# Altium footprint library IOT_Fire_Alarm.PcbLib: 18 footprints (part 1 of 2)
Each footprint in its own frame and in the unit in brackets; x right, y up, seen from the top. Pads: shape width x height; smd on the part's side, far side on the other; paste and mask are expansions set on the pad; w line width, h text height; cw(c..) or ccw(c..) is an arc to the next point about the centre after c.
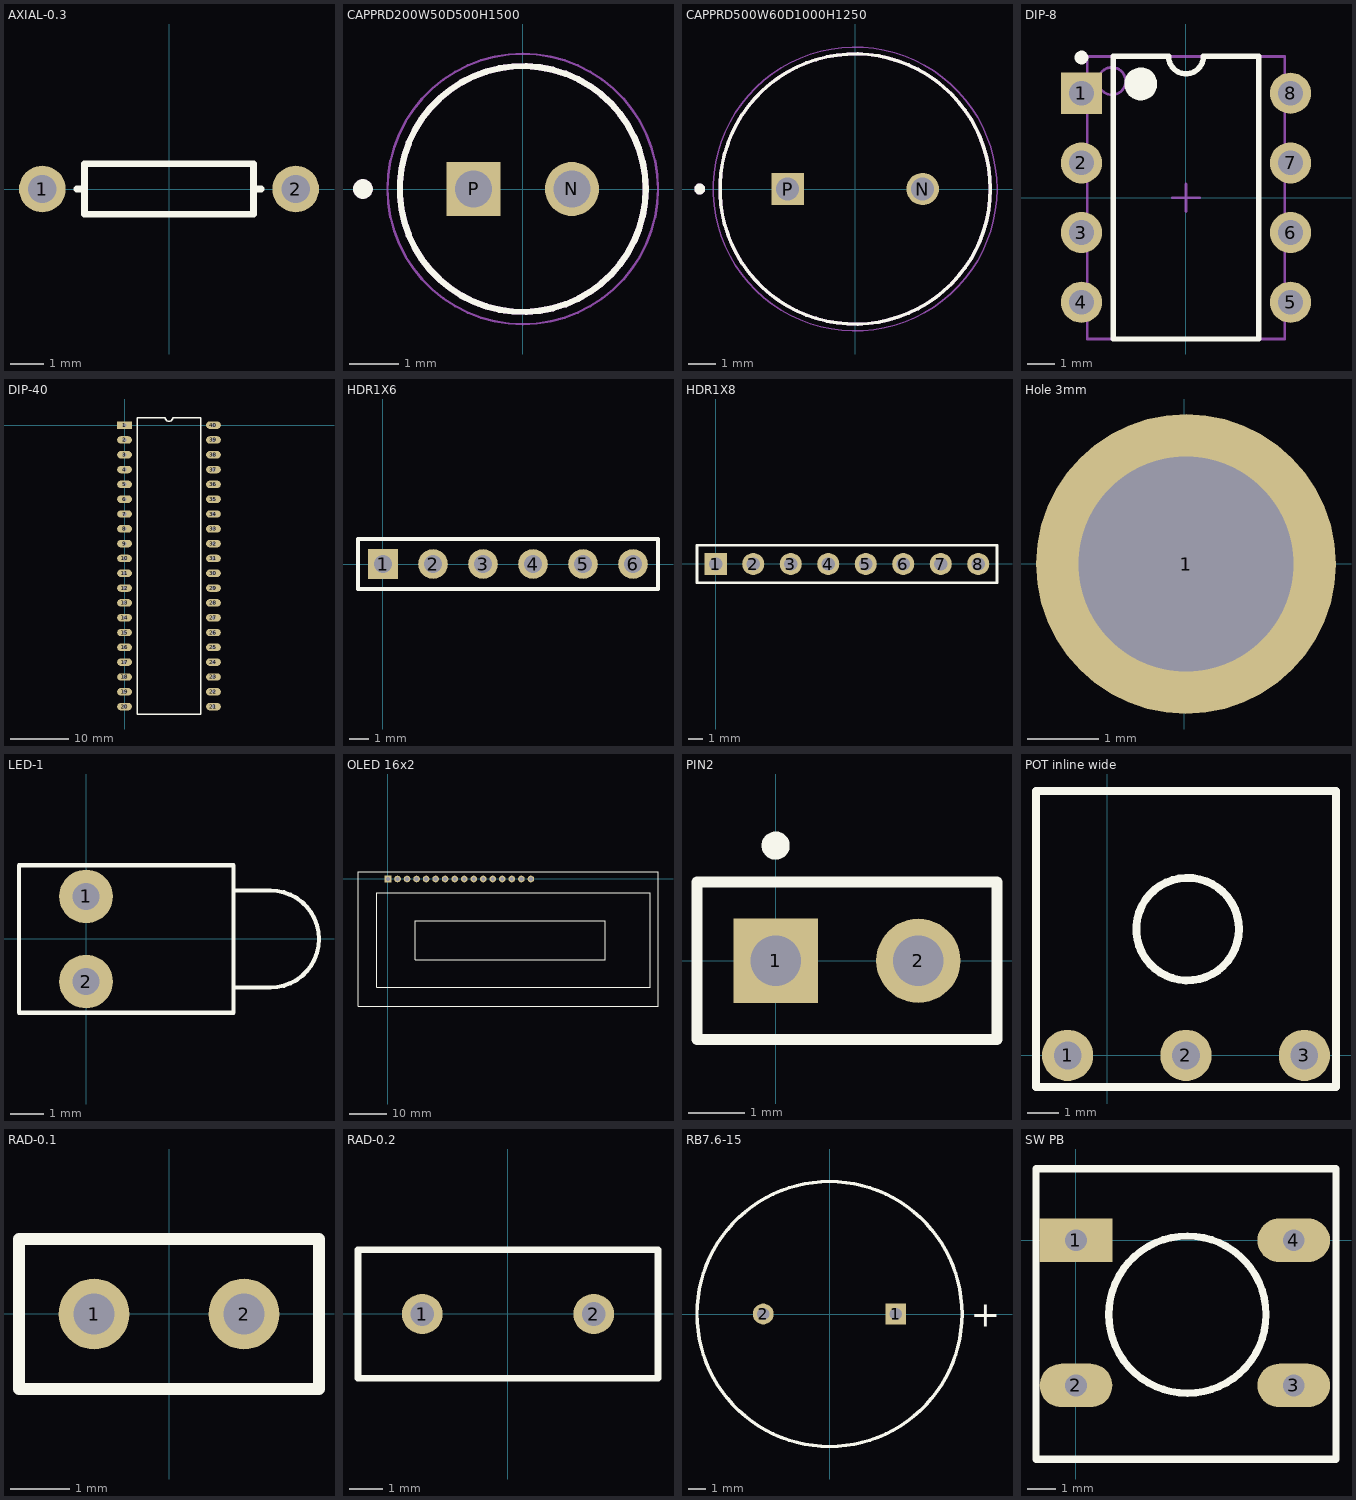
[diagram p0: the footprints below, top view; thin cyan lines are the x and y axes]

## AXIAL-0.3 [mm] "Axial Device, Thru-Hole; 2 Leads; 0.3 in Pin Spacing"
height 1.524
pads (2):
  round 1.4 hole 0.85: 1(-3.81,0) 2(3.81,0)
Top Overlay:
  lines w0.2: -2.769,0 -2.54,0 ; 2.769,0 2.54,0 ; 2.54,0 2.54,0.762 -2.54,0.762 -2.54,-0.762 2.54,-0.762 2.54,0

## CAPPRD200W50D500H1500 [mm]
height 1.524
pads (2):
  round 1.1 hole 0.75: N(1,0)
  rect 1.1x1.1 hole 0.75: P(-1,0)
Top Overlay:
  circle w0.2: c-3.25,0 r0.1
  circle w0.127: c0,0 r2.5
Mechanical 13:
  circle w0.2: c-3.25,0 r0.1
  circle w0.127: c0,0 r2.5
Mechanical 15:
  circle w0.05: c0,0 r2.75
3D body "step_temp.STEP": height 15, standoff -17, extent -2.5,-2.499 2.5,2.499

## CAPPRD500W60D1000H1250 [mm]
height 1.524
pads (2):
  round 1.2 hole 0.85: N(2.5,0)
  rect 1.2x1.2 hole 0.85: P(-2.5,0)
Top Overlay:
  circle w0.2: c-5.75,0 r0.1
  circle w0.127: c0,0 r5
Mechanical 13:
  circle w0.2: c-5.75,0 r0.1
  circle w0.127: c0,0 r5
Mechanical 15:
  circle w0.05: c0,0 r5.25
3D body "step_temp.STEP": height 12.5, standoff -17, extent -5,-4.998 5,4.998

## DIP-8 [mm]
height 1.524
pads (8):
  rect 1.5x1.5 hole 0.9: 1(-3.81,3.81)
  round 1.5 hole 0.9: 2(-3.81,1.27) 3(-3.81,-1.27) 4(-3.81,-3.81) 5(3.81,-3.81) 6(3.81,-1.27) 7(3.81,1.27) 8(3.81,3.81)
Top Overlay:
  circle w0.25: c-3.81,5.11 r0.125
  circle w0.6: c-1.65,4.15 r0.3
  lines w0.2: -2.65,-5.15 -2.65,5.15 -0.635,5.15 ccw(c0,5.15) 0.635,5.15 2.65,5.15 2.65,-5.15 -2.65,-5.15
Mechanical 13:
  circle w0.1: c-2.7,4.25 r0.5
  lines w0.1: -3.6,-5.15 -3.6,5.15 3.6,5.15 3.6,-5.15 -3.6,-5.15
Mechanical 15:
  lines w0.1: -0.5,0 0.5,0 ; 0,-0.5 0,0.5
3D body: height 5.08, standoff 0, extent -3.6,-5.15 3.6,5.15

## DIP-40 [mil]
height 60
pads (40):
  rect 100x50 hole 25: 1(0,0)
  oval 100x50 hole 25: 2(0,-100) 3(0,-200) 4(0,-300) 5(0,-400) 6(0,-500) 7(0,-600) 8(0,-700) 9(0,-800) 10(0,-900) 11(0,-1000) 12(0,-1100) 13(0,-1200) 14(0,-1300) 15(0,-1400) 16(0,-1500) 17(0,-1600) 18(0,-1700) 19(0,-1800) 20(0,-1900) 21(600,-1900) 22(600,-1800) 23(600,-1700) 24(600,-1600) 25(600,-1500) 26(600,-1400) 27(600,-1300) 28(600,-1200) 29(600,-1100) 30(600,-1000) 31(600,-900) 32(600,-800) 33(600,-700) 34(600,-600) 35(600,-500) 36(600,-400) 37(600,-300) 38(600,-200) 39(600,-100) 40(600,0)
Top Overlay:
  lines w10: 85,-1950 515,-1950 515,50 325,50 cw(c300,50) 275,50 85,50 85,-1950

## HDR1X6 [mm] "Connector; Header; 6 Position"
height 1.524
pads (6):
  rect 1.5x1.5 hole 0.9: 1(0,0)
  round 1.5 hole 0.9: 2(2.54,0) 3(5.08,0) 4(7.62,0) 5(10.16,0) 6(12.7,0)
Top Overlay:
  lines w0.2: -1.27,-1.27 13.97,-1.27 13.97,1.27 -1.27,1.27 -1.27,-1.27

## HDR1X8 [mm] "Connector; Header; 8 Position"
height 1.524
pads (8):
  rect 1.5x1.5 hole 0.9: 1(0,0)
  round 1.5 hole 0.9: 2(2.54,0) 3(5.08,0) 4(7.62,0) 5(10.16,0) 6(12.7,0) 7(15.24,0) 8(17.78,0)
Top Overlay:
  lines w0.2: -1.27,-1.27 -1.27,1.27 19.05,1.27 19.05,-1.27 -1.27,-1.27

## Hole 3mm [mil]
height 60
pads (1):
  round 165 hole 118.11: 1(0.96,0)

## LED-1 [mm] "LED; 2 Leads"
height 1.524
pads (2):
  round 1.6 hole 0.8: 1(0,1.27) 2(0,-1.27)
Top Overlay:
  lines w0.127: 4.4,-1.45 5.5,-1.45 ccw(c5.5,0) 5.5,1.45 4.4,1.45 ; -2,-2.2 4.4,-2.2 4.4,2.2 -2,2.2 -2,-2.2

## OLED 16x2 [mil]
height 60
pads (16):
  rect 70x70 hole 40: 1(0,0)
  round 70 hole 40: 2(100,0) 3(200,0) 4(300,0) 5(400,0) 6(500,0) 7(600,0) 8(700,0) 9(800,0) 10(900,0) 11(1000,0) 12(1100,0) 13(1200,0) 14(1300,0) 15(1400,0) 16(1500,0)
Top Overlay:
  lines w10: -314.96,-1338.58 2834.65,-1338.58 2834.65,78.74 -314.96,78.74 -314.96,-1338.58 ; -120.08,-1137.8 2753.94,-1137.8 2753.94,-145.67 -120.08,-145.67 -120.08,-1137.8 ; 283.86,-845.67 283.86,-437.8 2278.94,-437.8 2278.94,-845.67 283.86,-845.67

## PIN2 [mm] "Photosensitive Diode; 2 Leads"
height 1.524
pads (2):
  rect 1.5x1.5 hole 0.9: 1(0,0)
  round 1.5 hole 0.9: 2(2.54,0)
Top Overlay:
  circle w0.25: c0,2.05 r0.125
  lines w0.2: -1.4,-1.4 -1.4,1.4 3.94,1.4 3.94,-1.4 -1.4,-1.4

## POT inline wide [mil]
pads (3):
  round 65 hole 35: 1(-50,0) 2(100,0) 3(250,0)
Top Overlay:
  circle w10: c102,160 r65
  lines w10: -90,-40 290,-40 290,335 -90,335 -90,-40

## RAD-0.1 [mm] "Radial Cap, Thru-Hole; 2 Leads; 0.1 in Pin Spacing"
height 1.524
pads (2):
  round 1.2 hole 0.7: 1(-1.27,0) 2(1.27,0)
Top Overlay:
  lines w0.2: -2.54,-1.27 2.54,-1.27 2.54,1.27 -2.54,1.27 -2.54,-1.27

## RAD-0.2 [mm] "Radial Cap, Thru-Hole; 2 Leads; 0.2 in Pin Spacing"
height 1.524
pads (2):
  round 1.2 hole 0.7: 1(-2.54,0) 2(2.54,0)
Top Overlay:
  lines w0.2: -4.445,-1.905 -4.445,1.905 4.445,1.905 4.445,-1.905 -4.445,-1.905

## RB7.6-15 [mm] "Polarized Capacitor (Radial); 2 Leads"
height 1.524
pads (2):
  rect 1.2x1.2 hole 0.7: 1(3.81,0)
  round 1.2 hole 0.7: 2(-3.81,0)
Top Overlay:
  circle w0.2: c0,0 r7.62
  text "+" at 8.132,-0.737 h1.5

## SW PB [mil]
height 60
pads (4):
  rect 100x60 hole 30: 1(0,0)
  oval 100x60 hole 30: 2(0,-200) 3(300,-200) 4(300,0)
Top Overlay:
  circle w10: c153.54,-102.36 r108.32
  lines w10: -55.12,-301.57 358.27,-301.57 358.27,98.43 -55.12,98.43 -55.12,-301.57